# Altium footprint library chip_2920.PcbLib: 1 footprints
Each footprint in its own frame and in the unit in brackets; x right, y up, seen from the top. Pads: shape width x height; smd on the part's side, far side on the other; paste and mask are expansions set on the pad; w line width, h text height; cw(c..) or ccw(c..) is an arc to the next point about the centre after c.
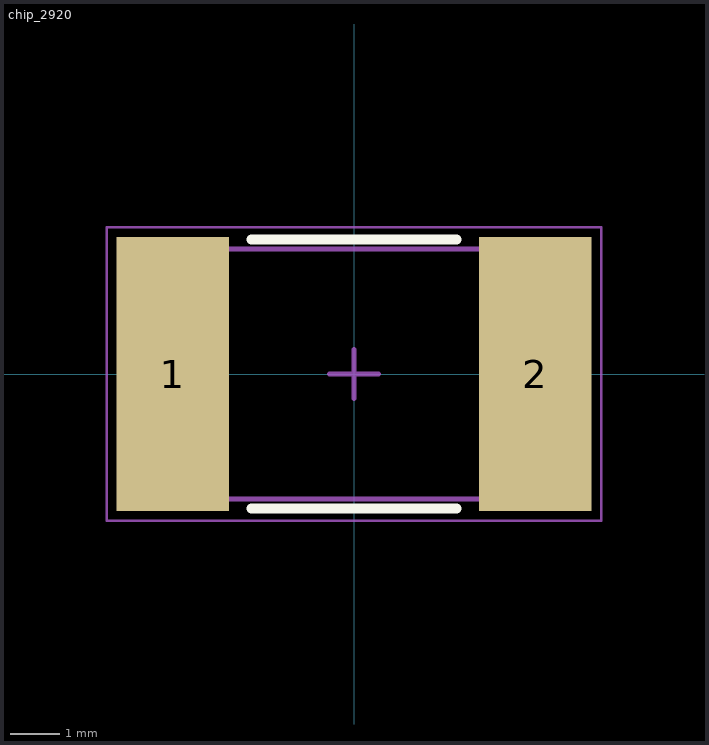
[diagram p0: the footprint, top view; thin cyan lines are the x and y axes]

## chip_2920 [mm]
height 0.6
pads (2):
  rect 2.3x5.6 smd: 1(-3.7,0) 2(3.7,0)
Top Overlay:
  lines w0.2: -2.1,-2.75 2.1,-2.75 ; -2.1,2.75 2.1,2.75
Mechanical 13:
  lines w0.1: -4.5,-2.55 -4.5,2.55 4.5,2.55 4.5,-2.55 -4.5,-2.55
Mechanical 15:
  lines w0.05: -5.05,-3 -5.05,3 5.05,3 5.05,-3 -5.05,-3
  lines w0.1: -0.5,0 0.5,0 ; 0,-0.5 0,0.5
3D body: height 1, standoff 0, extent -3.55,-2.5 3.55,2.5
3D body: height 1.05, standoff 0, extent -4.5,-2.55 -3.55,2.55
3D body: height 1.05, standoff 0, extent 3.55,-2.55 4.5,2.55